# Altium schematic symbol library MOSFET,N Ch,30V,2.5A,SC-96.Schlib: 1 symbol
Pins are listed as number, name and electrical type; pins without a type are passive.

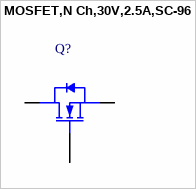
[diagram p0: symbol MOSFET,N Ch,30V,2.5A,SC-96]

## MOSFET,N Ch,30V,2.5A,SC-96
designator Q?
pins: 1 G, 2 S, 3 D